# EAGLE library part ADA4691-2 (library johnmamish-analog-devices)
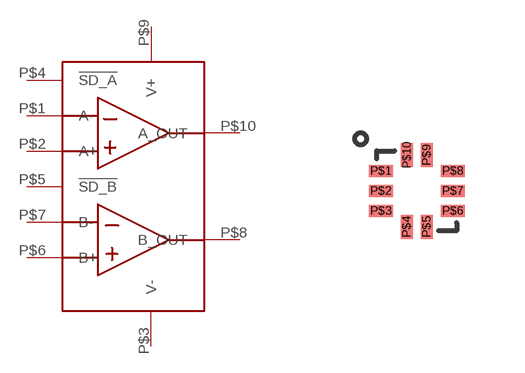
[diagram p1: symbol with the pads of ANALOG_DEVICES_2X2_LFCSP_10; footprint ANALOG_DEVICES_2X2_LFCSP_10]

Designator prefix -

## ADA4691-2  [ANALOG_DEVICES_2X2_LFCSP_10]
P$1  A-
P$2  A+
P$3  V-
P$4  !SD_A!
P$5  !SD_B!
P$6  B+
P$7  B-
P$8  B_OUT
P$9  V+
P$10  A_OUT

## Footprint ANALOG_DEVICES_2X2_LFCSP_10 (pad centres in mm)
smd 0.6 x 0.3: P$1 0.1,0; P$2 0.1,-0.5; P$3 0.1,-1; P$6 1.9,-1; P$7 1.9,-0.5; P$8 1.9,0
smd 0.3 x 0.6: P$4 0.75,-1.4; P$5 1.25,-1.4; P$9 1.25,0.4; P$10 0.75,0.4